# Altium footprint library 1708004.PcbLib: 1 footprints
Each footprint in its own frame and in the unit in brackets; x right, y up, seen from the top. Pads: shape width x height; smd on the part's side, far side on the other; paste and mask are expansions set on the pad; w line width, h text height; cw(c..) or ccw(c..) is an arc to the next point about the centre after c.
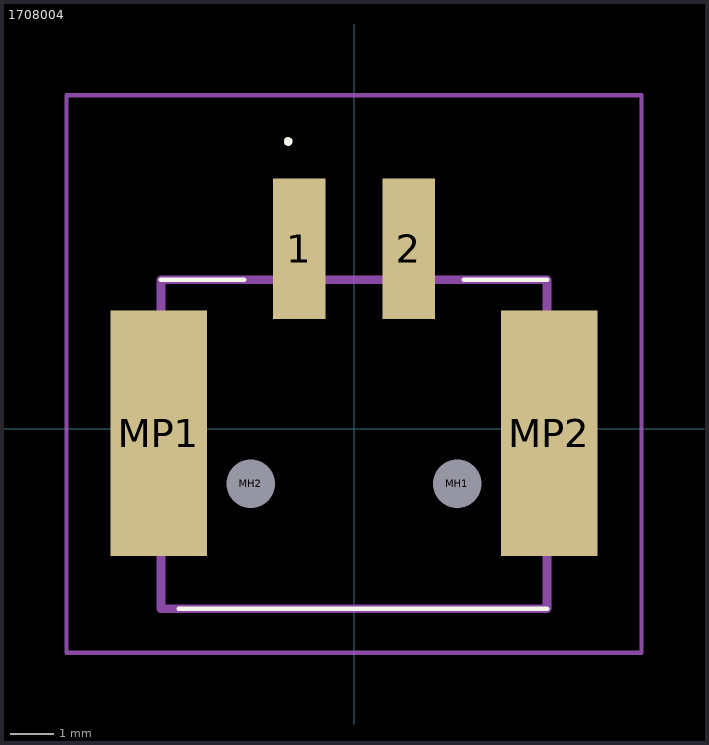
[diagram p0: the footprint, top view; thin cyan lines are the x and y axes]

## 1708004 [mm]
pads (6):
  rect 1.2x3.2 smd: 1(-1.25,4.1) 2(1.25,4.1)
  round 0.55 hole 1.1 unplated: MH1(2.35,-1.25) MH2(-2.35,-1.25)
  rect 2.2x5.6 smd: MP1(-4.45,-0.1) MP2(4.45,-0.1)
Top Overlay:
  lines w0.1: -4.4,3.4 -2.5,3.4 ; -4,-4.1 4.4,-4.1 ; 2.5,3.4 4.4,3.4 ; -1.5,6.5 ccw(c-1.5,6.55) -1.5,6.6 ccw(c-1.5,6.55) -1.5,6.5
Mechanical 15:
  lines w0.2: -4.4,-4.1 4.4,-4.1 4.4,3.4 -4.4,3.4 -4.4,-4.1
Mechanical 20:
  lines w0.1: -6.55,-5.1 6.55,-5.1 6.55,7.6 -6.55,7.6 -6.55,-5.1
3D body "1708004.stp": height 5, standoff -0.7, extent -5.266,-4.115 5.334,5.385